# Altium footprint library SMD_R.PcbLib: 17 footprints (part 2 of 2)
Each footprint in its own frame and in the unit in brackets; x right, y up, seen from the top. Pads: shape width x height; smd on the part's side, far side on the other; paste and mask are expansions set on the pad; w line width, h text height; cw(c..) or ccw(c..) is an arc to the next point about the centre after c.
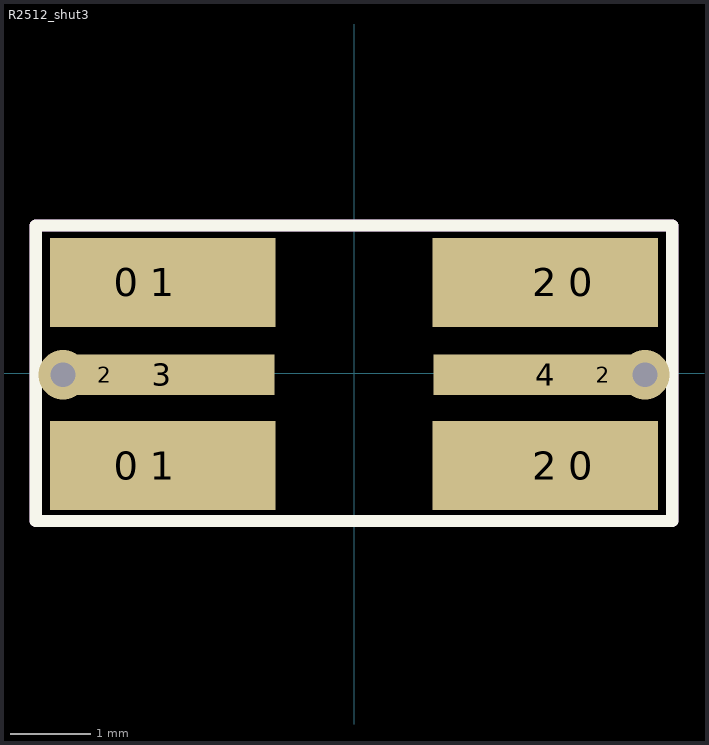
[diagram p1: the footprint, top view; thin cyan lines are the x and y axes]

## R2512_shut3 [mm] "贴片电阻2512封装"
height 0.6
pads (12):
  rrect50% 1.73x0.95 on Top Paste: 0(-2.812,-1.143) 0(-2.812,1.125) 0(2.812,-1.143) 0(2.812,1.125)
  rect 2.785x1.1 smd paste-3: 1(-2.367,-1.143) 1(-2.367,1.125) 2(2.367,-1.143) 2(2.367,1.125)
  rrect50% 1.2x0.35 on Top Paste: 2(-3.082,-0.018) 2(3.082,-0.018)
  rect 2.785x0.5 smd paste-3: 3(-2.374,-0.018) 4(2.374,-0.018)
via -3.6,-0.018 diameter 0.61 hole 0.305
via 3.6,-0.018 diameter 0.61 hole 0.305
Top Overlay:
  lines w0.152: -3.937,-1.829 -3.937,1.829 3.937,1.829 3.937,-1.829 -3.937,-1.829
Mechanical 15:
  lines w0.152: -3.937,-1.829 3.937,-1.829 3.937,1.829 -3.937,1.829 -3.937,-1.829
3D body "R2512-3.STEP": height 1.6, standoff 0, extent -3.175,-1.5 3.175,1.5